# Altium schematic symbol library Relays.SchLib: 3 symbols
Pins are listed as number, name and electrical type; pins without a type are passive.

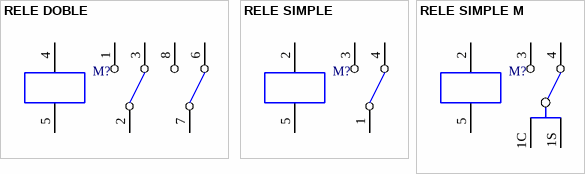
[diagram p0: symbols RELE DOBLE to RELE SIMPLE M]

## RELE DOBLE
designator M?
footprint TRA3-2-FORM-C
pins: 1 NA1, 2 C1, 3 NC1, 4 B1, 5 B2, 6 NC2, 7 C2, 8 NA2

## RELE SIMPLE
designator M?
footprint HRJ-3FF-Form-C
pins: 1 C1, 2 B1, 3 NA1, 4 NC1, 5 B2

## RELE SIMPLE M
designator M?
footprint HJQ-15F-FORM-C
pins: 1C C1, 1S C1, 2 B1, 3 NA1, 4 NC1, 5 B2